# Altium footprint library 2SC1815GRTE2FT.PcbLib: 1 footprints
Each footprint in its own frame and in the unit in brackets; x right, y up, seen from the top. Pads: shape width x height; smd on the part's side, far side on the other; paste and mask are expansions set on the pad; w line width, h text height; cw(c..) or ccw(c..) is an arc to the next point about the centre after c.
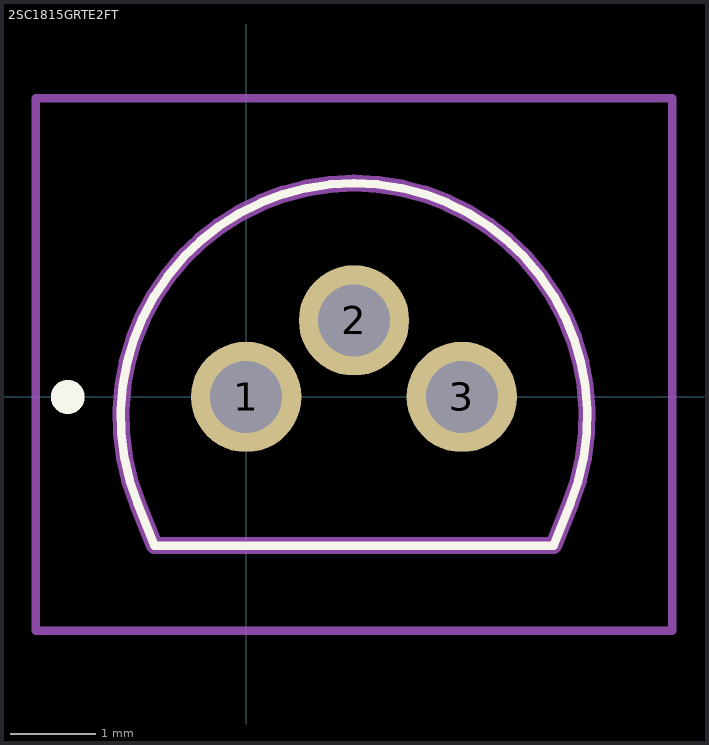
[diagram p0: the footprint, top view; thin cyan lines are the x and y axes]

## 2SC1815GRTE2FT [mm]
pads (3):
  round 1.3 hole 0.85: 1(0,0) 2(1.27,0.9) 3(2.54,0)
Top Overlay:
  lines w0.1: 3.82,-1.25 3.62,-1.75 -1.08,-1.75 -1.28,-1.25 cw(c1.27,-0.23) 3.82,-1.25 ; 3.82,-1.25 3.82,-1.25
  lines w0.2: -2.1,-0.1 cw(c-2.1,0) -2.1,0.1 ; -2.1,-0.1 -2.1,-0.1 ; -2.1,-0.1 ccw(c-2.1,0) -2.1,0.1 ; -2.1,0.1 -2.1,0.1
Mechanical 15:
  lines w0.2: -1.28,-1.25 -1.08,-1.75 3.62,-1.75 3.82,-1.25 ccw(c1.27,-0.23) -1.28,-1.25 ; -1.28,-1.25 -1.28,-1.25
Mechanical 20:
  lines w0.1: -2.476,-2.75 5.016,-2.75 5.016,3.516 -2.476,3.516 -2.476,-2.75